# Altium schematic symbol library IDC-10.SchLib: 1 symbol
Pins are listed as number, name and electrical type; pins without a type are passive.

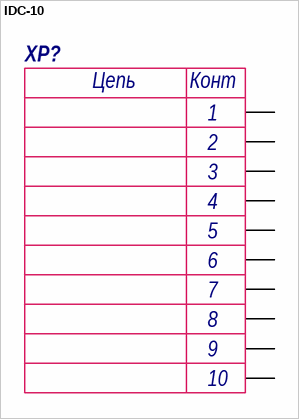
[diagram p0: symbol IDC-10]

## IDC-10
designator XP?  (value not drawn)
pins: 1, 2, 3, 4, 5, 6, 7, 8, 9, 10
text: Цепь; Конт